# EAGLE library part LMH1251MT/NOPB (library tms-rgb)
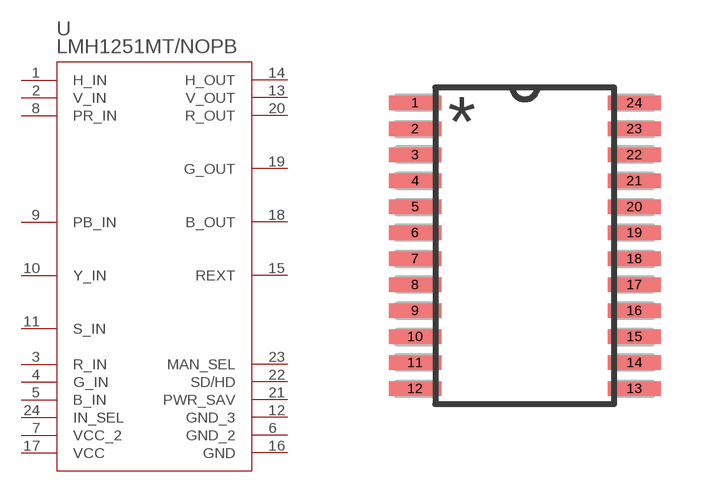
[diagram p4: symbol with the pads of LMH1251; footprint LMH1251]

Designator prefix U

## LMH1251MT/NOPB  [LMH1251]
1  H_IN  pas
2  V_IN  pas
3  R_IN  pas
4  G_IN  pas
5  B_IN  pas
6  GND_2  pas
7  VCC_2  pas
8  PR_IN  in
9  PB_IN  in
10  Y_IN  in
11  S_IN  in
12  GND_3  pas
13  V_OUT  out
14  H_OUT  out
15  REXT  pas
16  GND  pas
17  VCC  pas
18  B_OUT  out
19  G_OUT  out
20  R_OUT  out
21  PWR_SAV  in
22  SD/HD  in
23  MAN_SEL  in
24  IN_SEL  in

## Footprint LMH1251 (pad centres in mm)
smd 1.321 x 0.356: 1 -2.743,3.575; 2 -2.743,2.925; 3 -2.743,2.275; 4 -2.743,1.625; 5 -2.743,0.975; 6 -2.743,0.325; 7 -2.743,-0.325; 8 -2.743,-0.975; 9 -2.743,-1.625; 10 -2.743,-2.275; 11 -2.743,-2.925; 12 -2.743,-3.575; 13 2.743,-3.575; 14 2.743,-2.925; 15 2.743,-2.275; 16 2.743,-1.625; 17 2.743,-0.975; 18 2.743,-0.325; 19 2.743,0.325; 20 2.743,0.975; 21 2.743,1.625; 22 2.743,2.275; 23 2.743,2.925; 24 2.743,3.575